# Altium footprint library MasterBoardRevA.PcbLib: 30 footprints (part 2 of 2)
Each footprint in its own frame and in the unit in brackets; x right, y up, seen from the top. Pads: shape width x height; smd on the part's side, far side on the other; paste and mask are expansions set on the pad; w line width, h text height; cw(c..) or ccw(c..) is an arc to the next point about the centre after c.
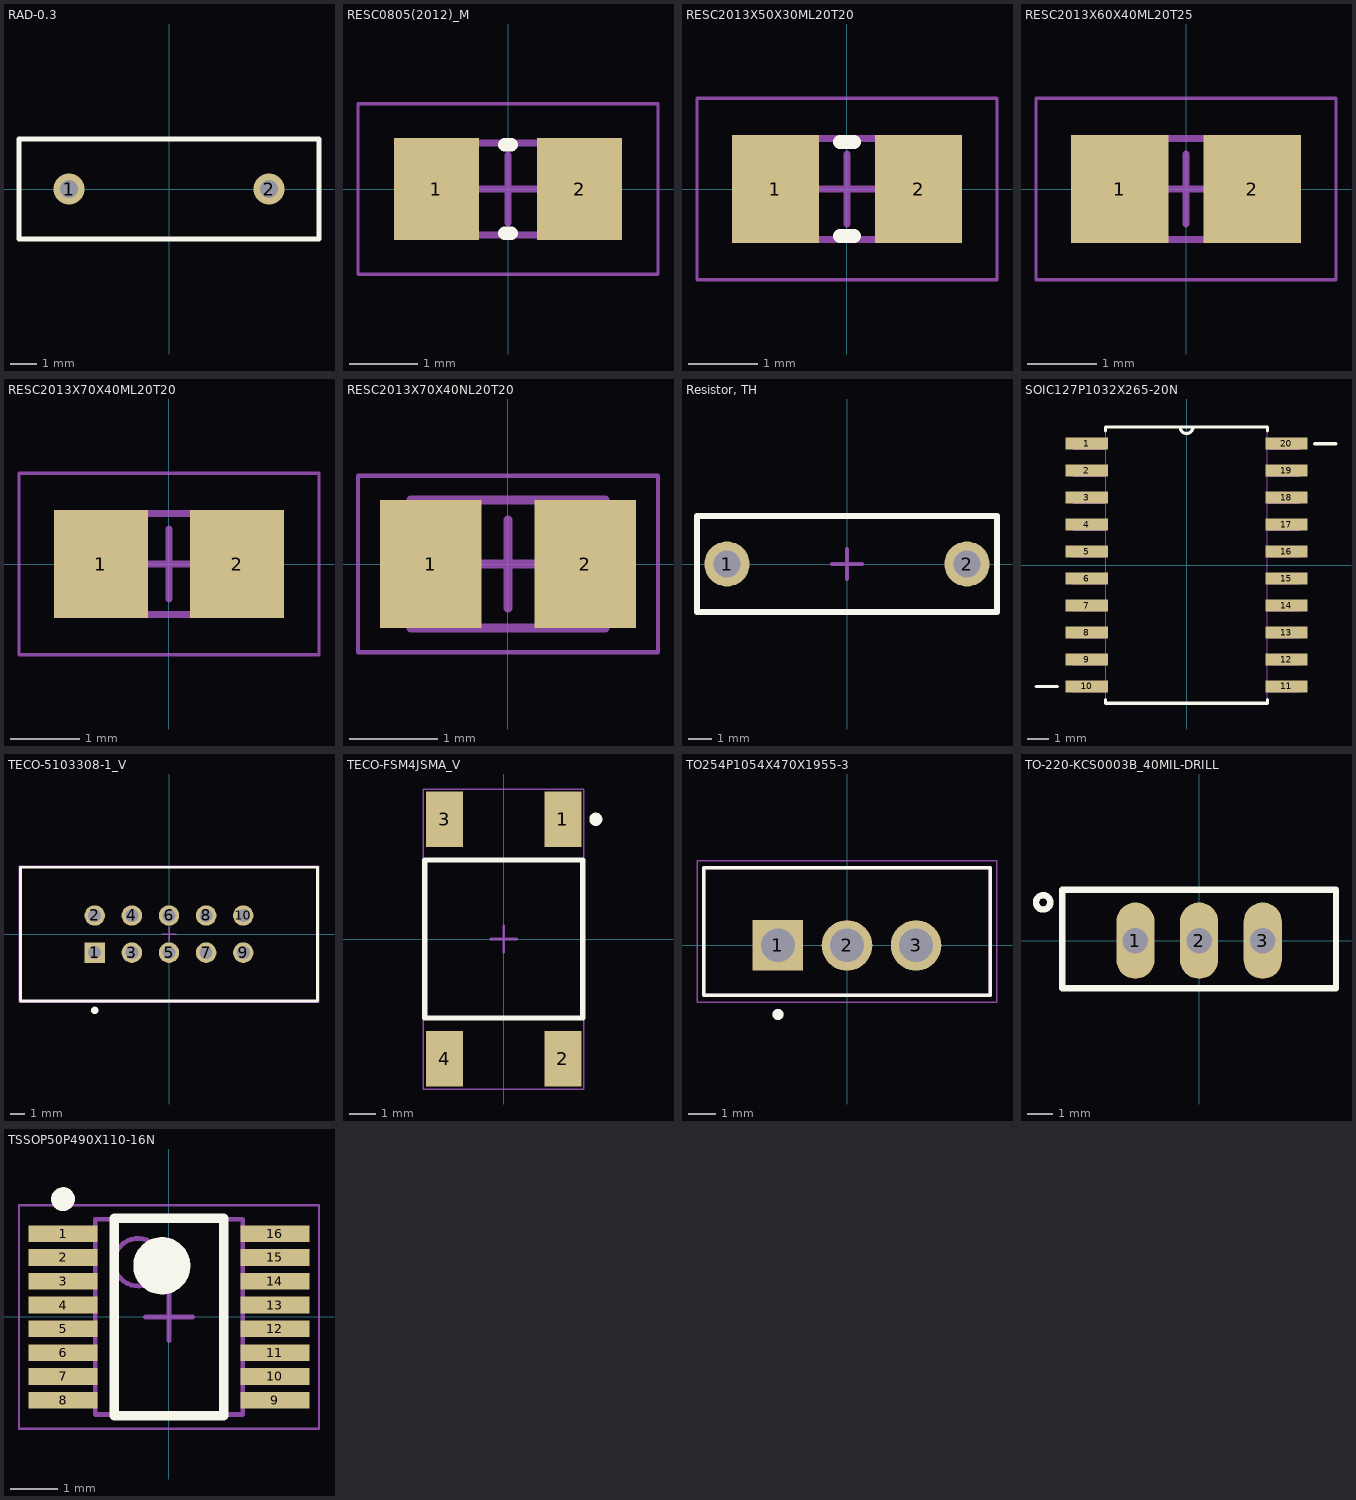
[diagram p1: the footprints below, top view; thin cyan lines are the x and y axes]

## RAD-0.3 [mm]
pads (2):
  round 1.2 hole 0.7: 1(-3.81,0) 2(3.81,0)
Top Overlay:
  lines w0.2: -5.715,-1.905 5.715,-1.905 5.715,1.905 -5.715,1.905 -5.715,-1.905

## RESC0805(2012)_M [mm]
pads (2):
  rect 1.25x1.5 smd: 1(-1.05,0) 2(1.05,0)
Top Overlay:
  lines w0.2: -0.05,-0.65 0.05,-0.65 ; -0.05,0.65 0.05,0.65
Mechanical 13:
  lines w0.1: -1.1,-0.675 -1.1,0.675 1.1,0.675 1.1,-0.675 -1.1,-0.675
Mechanical 15:
  lines w0.05: -2.2,-1.25 -2.2,1.25 2.2,1.25 2.2,-1.25 -2.2,-1.25
  lines w0.1: -0.5,0 0.5,0 ; 0,-0.5 0,0.5
3D body: height 0.7, standoff 0, extent -1.1,-0.675 -0.68,0.675
3D body: height 0.7, standoff 0, extent -0.68,-0.675 0.68,0.675
3D body: height 0.7, standoff 0, extent 0.68,-0.675 1.1,0.675

## RESC2013X50X30ML20T20 [mm]
pads (2):
  rect 1.25x1.55 smd: 1(-1.025,0) 2(1.025,0)
Top Overlay:
  lines w0.2: -0.1,-0.675 0.1,-0.675 ; -0.1,0.675 0.1,0.675
Mechanical 13:
  lines w0.1: -1.1,-0.725 -1.1,0.725 1.1,0.725 1.1,-0.725 -1.1,-0.725
Mechanical 15:
  lines w0.05: -2.15,-1.3 -2.15,1.3 2.15,1.3 2.15,-1.3 -2.15,-1.3
  lines w0.1: -0.5,0 0.5,0 ; 0,-0.5 0,0.5
3D body: height 0.5, standoff 0, extent -0.8,-0.725 0.8,0.725
3D body: height 0.5, standoff 0, extent -1.1,-0.725 -0.8,0.725
3D body: height 0.5, standoff 0, extent 0.8,-0.725 1.1,0.725

## RESC2013X60X40ML20T25 [mm]
pads (2):
  rect 1.4x1.55 smd: 1(-0.95,0) 2(0.95,0)
Mechanical 13:
  lines w0.1: -1.1,-0.725 -1.1,0.725 1.1,0.725 1.1,-0.725 -1.1,-0.725
Mechanical 15:
  lines w0.05: -2.15,-1.3 -2.15,1.3 2.15,1.3 2.15,-1.3 -2.15,-1.3
  lines w0.1: -0.5,0 0.5,0 ; 0,-0.5 0,0.5
3D body: height 0.6, standoff 0, extent -0.7,-0.725 0.7,0.725
3D body: height 0.6, standoff 0, extent -1.1,-0.725 -0.7,0.725
3D body: height 0.6, standoff 0, extent 0.7,-0.725 1.1,0.725

## RESC2013X70X40ML20T20 [mm]
pads (2):
  rect 1.35x1.55 smd: 1(-0.975,0) 2(0.975,0)
Mechanical 13:
  lines w0.1: -1.1,-0.725 -1.1,0.725 1.1,0.725 1.1,-0.725 -1.1,-0.725
Mechanical 15:
  lines w0.05: -2.15,-1.3 -2.15,1.3 2.15,1.3 2.15,-1.3 -2.15,-1.3
  lines w0.1: -0.5,0 0.5,0 ; 0,-0.5 0,0.5
3D body: height 0.7, standoff 0, extent -0.7,-0.725 0.7,0.725
3D body: height 0.7, standoff 0, extent -1.1,-0.725 -0.7,0.725
3D body: height 0.7, standoff 0, extent 0.7,-0.725 1.1,0.725

## RESC2013X70X40NL20T20 [mm]
pads (2):
  rect 1.15x1.45 smd: 1(-0.875,0) 2(0.875,0)
Mechanical 13:
  lines w0.1: -1.1,-0.725 -1.1,0.725 1.1,0.725 1.1,-0.725 -1.1,-0.725
Mechanical 15:
  lines w0.05: -1.7,-1 -1.7,1 1.7,1 1.7,-1 -1.7,-1
  lines w0.1: -0.5,0 0.5,0 ; 0,-0.5 0,0.5
3D body: height 0.7, standoff 0, extent -0.7,-0.725 0.7,0.725
3D body: height 0.7, standoff 0, extent -1.1,-0.725 -0.7,0.725
3D body: height 0.7, standoff 0, extent 0.7,-0.725 1.1,0.725

## Resistor, TH [mil]
pads (2):
  round 75 hole 45: 1(-200,0) 2(200,0)
Top Overlay:
  lines w10: -250,-80 250,-80 250,80 -250,80 -250,-80
Mechanical 15:
  lines w6: -25,0 25,0 ; 0,-25 0,25
  lines w10: -250,-80 -250,80 250,80 250,-80 -250,-80
3D body "RES-0.25W-H-MF.stp": height 106.18, standoff -98.43, extent -210.74,-51.08 210.83,51.08

## SOIC127P1032X265-20N [mil]
pads (20):
  rect 78x22 smd: 1(-185,225) 2(-185,175) 3(-185,125) 4(-185,75) 5(-185,25) 6(-185,-25) 7(-185,-75) 8(-185,-125) 9(-185,-175) 10(-185,-225) 11(185,-225) 12(185,-175) 13(185,-125) 14(185,-75) 15(185,-25) 16(185,25) 17(185,75) 18(185,125) 19(185,175) 20(185,225)
Top Overlay:
  lines w6: -279,-225 -239,-225 ; -150,-249 -150,-256 150,-256 150,-249 ; -150,249 -150,256 -12,256 ; 150,249 150,256 12,256 ; 237,225 277,225 ; -12,256 ccw(c0,256) 12,256 ; -12,256 12,256
Mechanical 13:
  lines w0: -12,256 ccw(c0,256) 12,256 ; -12,256 -150,256 -150,-256 150,-256 150,256 12,256 ; -12,256 12,256 ; -210,-235 -150,-235 -150,-215 -210,-215 -210,-235 ; -210,-185 -150,-185 -150,-165 -210,-165 -210,-185 ; -210,-135 -150,-135 -150,-115 -210,-115 -210,-135 ; -210,-85 -150,-85 -150,-65 -210,-65 -210,-85 ; -210,-35 -150,-35 -150,-15 -210,-15 -210,-35 ; -210,15 -150,15 -150,35 -210,35 -210,15 ; -210,65 -150,65 -150,85 -210,85 -210,65 ; -210,115 -150,115 -150,135 -210,135 -210,115 ; -210,165 -150,165 -150,185 -210,185 -210,165 ; -210,215 -150,215 -150,235 -210,235 -210,215 ; 150,-235 210,-235 210,-215 150,-215 150,-235 ; 150,-185 210,-185 210,-165 150,-165 150,-185 ; 150,-135 210,-135 210,-115 150,-115 150,-135 ; 150,-85 210,-85 210,-65 150,-65 150,-85 ; 150,-35 210,-35 210,-15 150,-15 150,-35 ; 150,15 210,15 210,35 150,35 150,15 ; 150,65 210,65 210,85 150,85 150,65 ; 150,115 210,115 210,135 150,135 150,115 ; 150,165 210,165 210,185 150,185 150,165 ; 150,215 210,215 210,235 150,235 150,215

## TECO-5103308-1_V [mm]
pads (10):
  rect 1.4x1.4 hole 0.89: 1(-5.08,-1.27)
  round 1.4 hole 0.89: 2(-5.08,1.27) 3(-2.54,-1.27) 4(-2.54,1.27) 5(0,-1.27) 6(0,1.27) 7(2.54,-1.27) 8(2.54,1.27) 9(5.08,-1.27) 10(5.08,1.27)
Top Overlay:
  circle w0.25: c-5.08,-5.22 r0.125
  lines w0.2: -10.16,-4.57 10.16,-4.57 10.16,4.57 -10.16,4.57 -10.16,-4.57
Mechanical 13:
  lines w0.1: -10.16,-4.57 10.16,-4.57 10.16,4.57 -10.16,4.57 -10.16,-4.57
Mechanical 15:
  lines w0.05: -10.26,-4.67 10.26,-4.67 10.26,4.67 -10.26,4.67 -10.26,-4.67
  lines w0.1: -0.5,0 0.5,0 ; 0,-0.5 0,0.5
3D body: height 9.86, standoff 0, extent -10.16,-4.57 10.16,4.57

## TECO-FSM4JSMA_V [mm]
pads (4):
  rect 1.4x2.1 smd: 1(2.25,4.55) 2(2.25,-4.55) 3(-2.25,4.55) 4(-2.25,-4.55)
Top Overlay:
  circle w0.25: c3.5,4.55 r0.125
  lines w0.2: -3,-3 -3,3 3,3 3,-3 -3,-3
Mechanical 13:
  lines w0.1: -3,-3 3,-3 3,3 -3,3 -3,-3
Mechanical 15:
  lines w0.05: -3.05,-5.7 3.05,-5.7 3.05,5.7 -3.05,5.7 -3.05,-5.7
  lines w0.1: -0.5,0 0.5,0 ; 0,-0.5 0,0.5
3D body "c-4-1437565-2-s-3d.stp": height 5.08, standoff 0, extent -3,-5 3,5

## Test-Point [mm]
via 0,0 diameter 1.016 hole 0.762

## TO254P1054X470X1955-3 [mm]
pads (3):
  rect 1.86x1.86 hole 1.24: 1(-2.54,0)
  round 1.86 hole 1.24: 2(0,0) 3(2.54,0)
Top Overlay:
  circle w0.2: c-2.54,-2.54 r0.1
  lines w0.127: -5.27,-1.84 -5.27,2.86 5.27,2.86 5.27,-1.84 -5.27,-1.84
Mechanical 13:
  circle w0.2: c-2.54,-2.54 r0.1
  lines w0.127: -5.27,-1.84 -5.27,2.86 5.27,2.86 5.27,-1.84 -5.27,-1.84
Mechanical 15:
  lines w0.05: -5.52,-2.09 -5.52,3.11 5.52,3.11 5.52,-2.09 -5.52,-2.09
3D body "LM1117T-3.3.STEP": height 15.75, standoff -14.27, extent -4.883,-1.753 5.086,2.692

## TO-220-KCS0003B_40MIL-DRILL [mil]
pads (3):
  oval 60x120 hole 40: 1(-100,0) 2(0,0) 3(100,0)
Top Overlay:
  circle w10: c-245,60 r11.18
  lines w10: -215,-75 -215,30 -215,80 215,80 215,-75 107.5,-75 -107.5,-75 -215,-75
3D body "Mosfet IRLB3034.step": height 749.21, standoff -375.9, extent -205.51,-84.92 200,45

## TSSOP50P490X110-16N [mm] "TSSOP, 16-Leads, Body 3.77x3.00mm, Pitch 0.50mm, IPC Medium Density"
height 1.1
pads (16):
  rect 1.45x0.35 smd: 1(-2.225,1.75) 2(-2.225,1.25) 3(-2.225,0.75) 4(-2.225,0.25) 5(-2.225,-0.25) 6(-2.225,-0.75) 7(-2.225,-1.25) 8(-2.225,-1.75) 9(2.225,-1.75) 10(2.225,-1.25) 11(2.225,-0.75) 12(2.225,-0.25) 13(2.225,0.25) 14(2.225,0.75) 15(2.225,1.25) 16(2.225,1.75)
Top Overlay:
  circle w0.6: c-0.15,1.075 r0.3
  circle w0.25: c-2.225,2.475 r0.125
  lines w0.2: -1.15,-2.075 1.15,-2.075 1.15,2.075 -1.15,2.075 -1.15,-2.075
Mechanical 13:
  circle w0.1: c-0.65,1.15 r0.5
  lines w0.1: -1.55,-2.05 1.55,-2.05 1.55,2.05 -1.55,2.05 -1.55,-2.05
Mechanical 15:
  lines w0.05: -3.15,-2.35 3.15,-2.35 3.15,2.35 -3.15,2.35 -3.15,-2.35
  lines w0.1: -0.5,0 0.5,0 ; 0,-0.5 0,0.5
3D body: height 1.1, standoff 0.1, extent -1.55,-2.05 1.55,2.05